# Altium footprint library ETech PCB Rev 1.0.PcbLib: 102 footprints (part 4 of 7)
Each footprint in its own frame and in the unit in brackets; x right, y up, seen from the top. Pads: shape width x height; smd on the part's side, far side on the other; paste and mask are expansions set on the pad; w line width, h text height; cw(c..) or ccw(c..) is an arc to the next point about the centre after c.
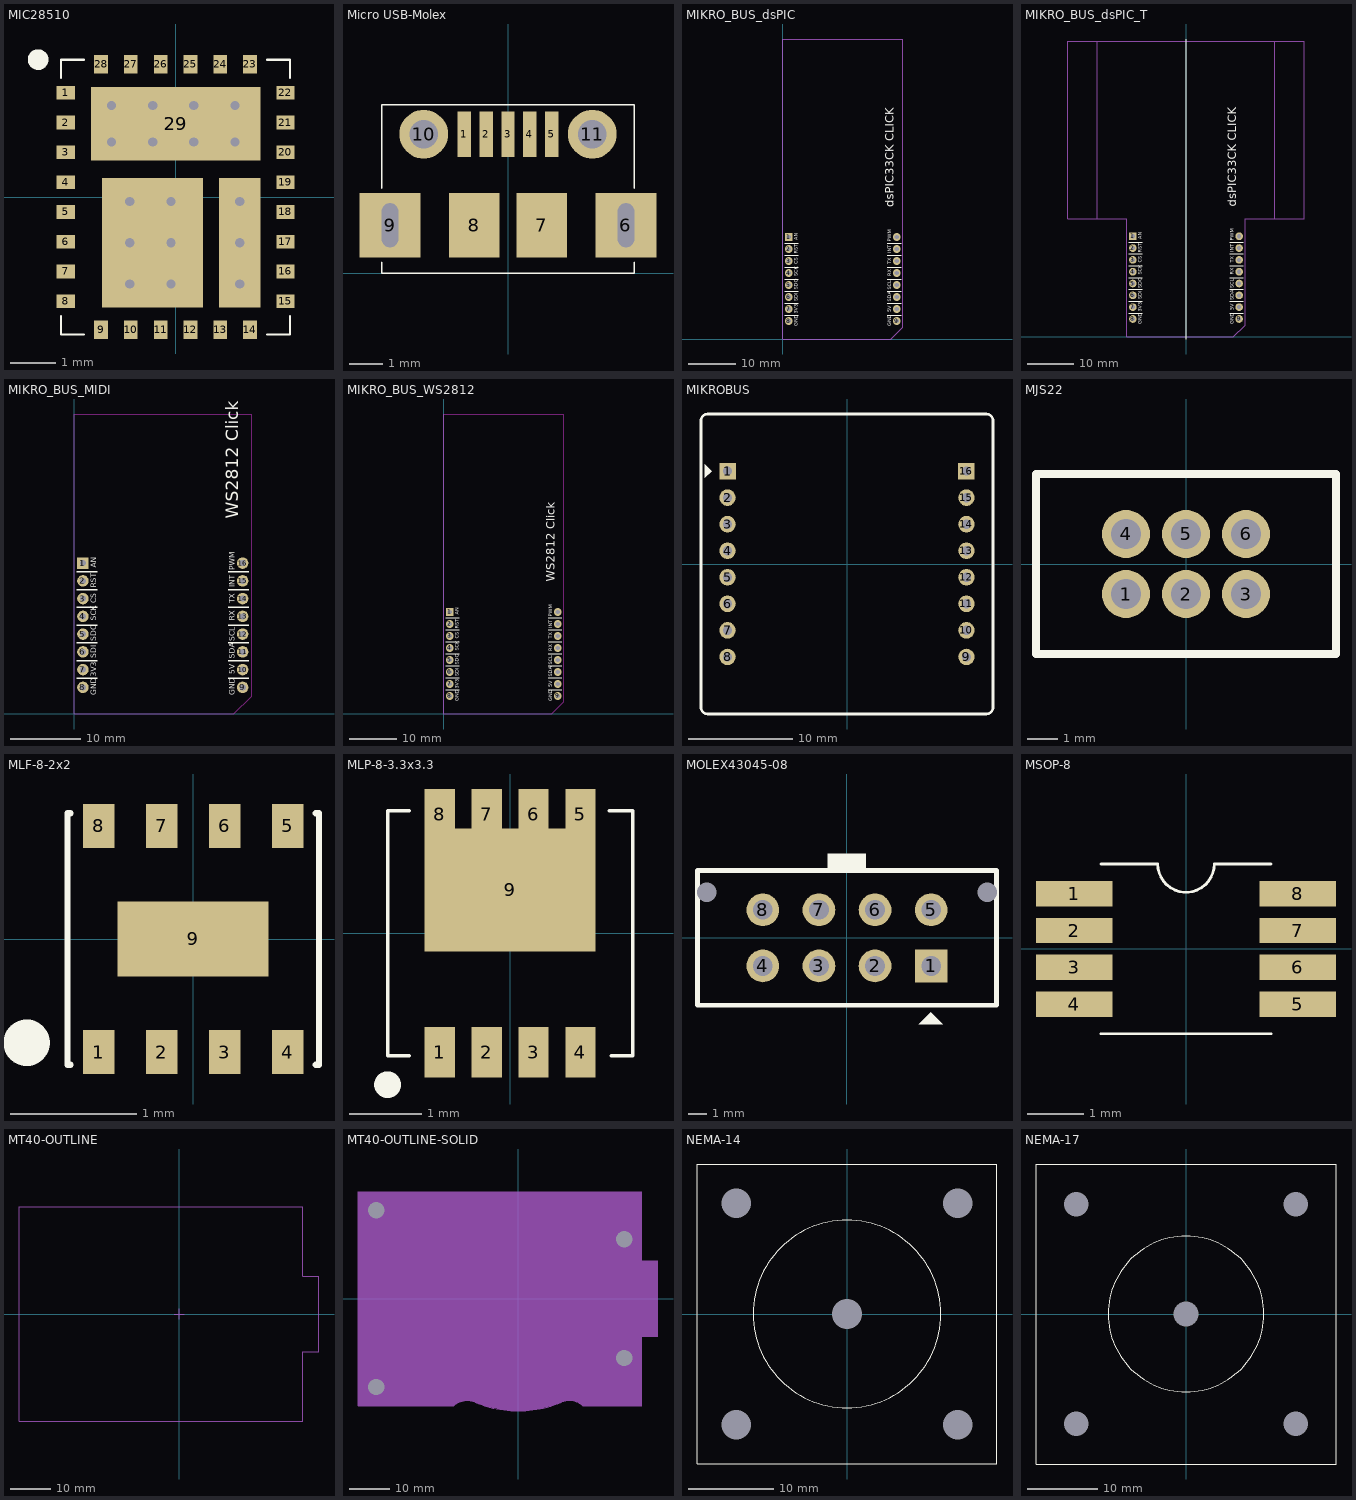
[diagram p3: the footprints below, top view; thin cyan lines are the x and y axes]

## MIC28510 [mm]
height 2.4
pads (31):
  rect 0.4x0.3 smd mask+0.08: 1(-2.4,2.275) 2(-2.4,1.625) 3(-2.4,0.975) 4(-2.4,0.325) 5(-2.4,-0.325) 6(-2.4,-0.975) 7(-2.4,-1.625) 8(-2.4,-2.275) 15(2.4,-2.275) 16(2.4,-1.625) 17(2.4,-0.975) 18(2.4,-0.325) 19(2.4,0.325) 20(2.4,0.975) 21(2.4,1.625) 22(2.4,2.275)
  rect 0.3x0.4 smd mask+0.08: 9(-1.625,-2.9) 10(-0.975,-2.9) 11(-0.325,-2.9) 12(0.325,-2.9) 13(0.975,-2.9) 14(1.625,-2.9) 23(1.625,2.9) 24(0.975,2.9) 25(0.325,2.9) 26(-0.325,2.9) 27(-0.975,2.9) 28(-1.625,2.9)
  rect 3.7x1.6 smd: 29(0,1.6)
  rect 2.2x2.83 smd: ""(-0.5,-1)
  rect 0.9x2.83 smd: ""(1.4,-1)
via -1.4,2 diameter 0.457 hole 0.203
via 0.4,2 diameter 0.457 hole 0.203
via 1.3,2 diameter 0.457 hole 0.203
via 1.4,-1.9 diameter 0.457 hole 0.203
via 1.4,-0.1 diameter 0.457 hole 0.203
via 1.4,-1 diameter 0.457 hole 0.203
via -1,-1.9 diameter 0.457 hole 0.203
via -1,-1 diameter 0.457 hole 0.203
via -1,-0.1 diameter 0.457 hole 0.203
via -0.1,-0.1 diameter 0.457 hole 0.203
via -0.1,-1 diameter 0.457 hole 0.203
via -0.1,-1.9 diameter 0.457 hole 0.203
via 1.3,1.2 diameter 0.457 hole 0.203
via -1.4,1.2 diameter 0.457 hole 0.203
via 0.4,1.2 diameter 0.457 hole 0.203
via -0.5,1.2 diameter 0.457 hole 0.203
via -0.5,2 diameter 0.457 hole 0.203
Top Overlay:
  circle w0.25: c-3,3 r0.1
  lines w0.05: -2.5,-2.6 -2.5,-3 -2,-3 ; -2.5,2.6 -2.5,3 -2,3 ; 2,-3 2.5,-3 2.5,-2.6 ; 2,3 2.5,3 2.5,2.6

## Micro USB-Molex [mm] "105017-0001"
height 6.7
pads (11):
  rect 0.4x1.35 smd: 1(-1.3,4.125) 2(-0.65,4.125) 3(0,4.125) 4(0.65,4.125) 5(1.3,4.125)
  rect 1.8x1.9 hole 0.5 slot 1.3 at 90 deg unplated: 6(3.5,1.425) 9(-3.5,1.425)
  rect 1.5x1.9 smd: 7(1,1.425) 8(-1,1.425)
  round 1.45 hole 0.85 unplated: 10(-2.5,4.125) 11(2.5,4.125)
Top Overlay:
  lines w0.05: -3.75,0.325 -3.75,0 3.75,0 3.75,0.325 ; -3.75,2.525 -3.75,5 3.75,5 3.75,2.525

## MIKRO_BUS_dsPIC [mil]
height 47.24
pads (16):
  rect 65x65 hole 35: 1(50,850)
  round 65 hole 35: 2(50,750) 3(50,650) 4(50,550) 5(50,450) 6(50,350) 7(50,250) 8(50,150) 9(950,150) 10(950,250) 11(950,350) 12(950,450) 13(950,550) 14(950,650) 15(950,750) 16(950,850)
Top Overlay:
  lines w8: 15,200 130,200 ; 15,300 130,300 ; 15,400 130,400 ; 15,500 130,500 ; 15,600 130,600 ; 15,700 130,700 ; 15,800 130,800 ; 870,200 985,200 ; 870,300 985,300 ; 870,400 985,400 ; 870,500 985,500 ; 870,600 985,600 ; 870,700 985,700 ; 870,800 985,800
  text "PWM" at 905,810 h30
  text "CS" at 125,625 h30
  text "TX" at 905,625 h30
  text "RX" at 905,525 h30
  text "SCL" at 905,410 h30
  text "SDA" at 905,310 h30
  text "GND" at 905,107 h30
  text "SDO" at 125,410 h30
  text "RST" at 125,710 h30
  text "INT" at 905,715 h30
  text "SCK" at 125,525 h30
  text "AN" at 125,825 h30
  text "SDI" at 125,315 h30
  text "5V" at 905,225 h30
  text "3V3" at 125,210 h30
  text "GND" at 125,107 h30
  text "dsPIC33CK CLICK" at 950,1100 h120
Bottom Overlay:
  lines w8: 3,100 100,100 100,900 3,900 ; 997,100 900,100 900,900 997,900
  text "SCK" at 230,530 h35
  text "AN" at 200,830 h35
  text "TX" at 860,630 h35
  text "RX" at 860,530 h35
  text "5V" at 860,230 h35
  text "GND" at 860,130 h35
  text "PWM" at 860,830 h35
  text "RST" at 230,730 h35
  text "SDA" at 860,330 h35
  text "SDO" at 230,430 h35
  text "3V3" at 230,230 h35
  text "GND" at 233,130 h35
  text "CS" at 195,630 h35
  text "SDI" at 220,330 h35
  text "INT" at 860,730 h35
  text "SCL" at 860,430 h35
Mechanical 15:
  lines w4: 0,0 0,2500 1000,2500 1000,98.43 901.57,0 897.64,0 0,0
3D body: height 81.88, standoff -398.04, extent 892.52,100 1007.48,400
3D body: height 81.88, standoff -398.04, extent -7.96,100 107,400
3D body: height 81.88, standoff -398.04, extent 892.52,400 1007.48,900
3D body: height 81.88, standoff -398.04, extent -7.96,400 107,900

## MIKRO_BUS_dsPIC_T [mil]
height 47.24
pads (16):
  rect 65x65 hole 35: 1(-450,850)
  round 65 hole 35: 2(-450,750) 3(-450,650) 4(-450,550) 5(-450,450) 6(-450,350) 7(-450,250) 8(-450,150) 9(450,150) 10(450,250) 11(450,350) 12(450,450) 13(450,550) 14(450,650) 15(450,750) 16(450,850)
Top Overlay:
  lines w4: 0,-19.68 0,2519.68
  lines w8: -485,200 -370,200 ; -485,300 -370,300 ; -485,400 -370,400 ; -485,500 -370,500 ; -485,600 -370,600 ; -485,700 -370,700 ; -485,800 -370,800 ; 370,200 485,200 ; 370,300 485,300 ; 370,400 485,400 ; 370,500 485,500 ; 370,600 485,600 ; 370,700 485,700 ; 370,800 485,800
  text "PWM" at 405,810 h30
  text "CS" at -375,625 h30
  text "TX" at 405,625 h30
  text "RX" at 405,525 h30
  text "SCL" at 405,410 h30
  text "SDA" at 405,310 h30
  text "GND" at 405,107 h30
  text "SDO" at -375,410 h30
  text "RST" at -375,710 h30
  text "INT" at 405,715 h30
  text "SCK" at -375,525 h30
  text "AN" at -375,825 h30
  text "SDI" at -375,315 h30
  text "5V" at 405,225 h30
  text "3V3" at -375,210 h30
  text "GND" at -375,107 h30
  text "dsPIC33CK CLICK" at 450,1100 h120
Bottom Overlay:
  lines w8: -497,100 -400,100 -400,900 -497,900 ; 497,100 400,100 400,900 497,900
  text "SCK" at -270,530 h35
  text "AN" at -300,830 h35
  text "TX" at 360,630 h35
  text "RX" at 360,530 h35
  text "5V" at 360,230 h35
  text "GND" at 360,130 h35
  text "PWM" at 360,830 h35
  text "RST" at -270,730 h35
  text "SDA" at 360,330 h35
  text "SDO" at -270,430 h35
  text "3V3" at -270,230 h35
  text "GND" at -267,130 h35
  text "CS" at -305,630 h35
  text "SDI" at -280,330 h35
  text "INT" at 360,730 h35
  text "SCL" at 360,430 h35
Mechanical 15:
  lines w4: -750,1000 -750,2500 ; -750,1000 -500,1000 -500,0 397.64,0 401.57,0 500,98.43 500,1000 750,1000 ; -750,1000 -1000,1000 -1000,2500 -750,2500 ; -750,2500 750,2500 ; 750,1000 750,2500 ; 750,1000 1000,1000 1000,2500 750,2500
3D body: height 81.88, standoff -398.04, extent 392.52,100 507.48,400
3D body: height 81.88, standoff -398.04, extent -507.96,100 -393,400
3D body: height 81.88, standoff -398.04, extent 392.52,400 507.48,900
3D body: height 81.88, standoff -398.04, extent -507.96,400 -393,900

## MIKRO_BUS_MIDI [mil]
height 47.24
pads (16):
  rect 65x65 hole 35: 1(50,850)
  round 65 hole 35: 2(50,750) 3(50,650) 4(50,550) 5(50,450) 6(50,350) 7(50,250) 8(50,150) 9(950,150) 10(950,250) 11(950,350) 12(950,450) 13(950,550) 14(950,650) 15(950,750) 16(950,850)
Top Overlay:
  lines w8: 15,200 130,200 ; 15,300 130,300 ; 15,400 130,400 ; 15,500 130,500 ; 15,600 130,600 ; 15,700 130,700 ; 15,800 130,800 ; 870,200 985,200 ; 870,300 985,300 ; 870,400 985,400 ; 870,500 985,500 ; 870,600 985,600 ; 870,700 985,700 ; 870,800 985,800
  text "WS2812 Click" at 950,1100 h120
  text "GND" at 125,107 h30
  text "3V3" at 125,210 h30
  text "5V" at 905,225 h30
  text "SDI" at 125,315 h30
  text "AN" at 125,825 h30
  text "SCK" at 125,525 h30
  text "INT" at 905,715 h30
  text "RST" at 125,710 h30
  text "SDO" at 125,410 h30
  text "GND" at 905,107 h30
  text "SDA" at 905,310 h30
  text "SCL" at 905,410 h30
  text "RX" at 905,525 h30
  text "TX" at 905,625 h30
  text "CS" at 125,625 h30
  text "PWM" at 905,810 h30
Bottom Overlay:
  lines w8: 3,100 100,100 100,900 3,900 ; 997,100 900,100 900,900 997,900
  text "SCL" at 860,430 h35
  text "INT" at 860,730 h35
  text "SDI" at 220,330 h35
  text "CS" at 195,630 h35
  text "GND" at 233,130 h35
  text "3V3" at 230,230 h35
  text "SDO" at 230,430 h35
  text "SDA" at 860,330 h35
  text "RST" at 230,730 h35
  text "PWM" at 860,830 h35
  text "GND" at 860,130 h35
  text "5V" at 860,230 h35
  text "RX" at 860,530 h35
  text "TX" at 860,630 h35
  text "AN" at 200,830 h35
  text "SCK" at 230,530 h35
Keep-Out Layer:
  lines w6: 0,0 0,1690 1000,1690 1000,100 900,0 0,0
3D body: height 81.88, standoff -398.04, extent -7.96,400 107,900
3D body: height 81.88, standoff -398.04, extent 892.52,400 1007.48,900
3D body: height 81.88, standoff -398.04, extent -7.96,100 107,400
3D body: height 81.88, standoff -398.04, extent 892.52,100 1007.48,400

## MIKRO_BUS_WS2812 [mil]
height 47.24
pads (16):
  rect 65x65 hole 35: 1(50,850)
  round 65 hole 35: 2(50,750) 3(50,650) 4(50,550) 5(50,450) 6(50,350) 7(50,250) 8(50,150) 9(950,150) 10(950,250) 11(950,350) 12(950,450) 13(950,550) 14(950,650) 15(950,750) 16(950,850)
Top Overlay:
  lines w8: 15,200 130,200 ; 15,300 130,300 ; 15,400 130,400 ; 15,500 130,500 ; 15,600 130,600 ; 15,700 130,700 ; 15,800 130,800 ; 870,200 985,200 ; 870,300 985,300 ; 870,400 985,400 ; 870,500 985,500 ; 870,600 985,600 ; 870,700 985,700 ; 870,800 985,800
  text "WS2812 Click" at 950,1100 h120
  text "GND" at 125,107 h30
  text "3V3" at 125,210 h30
  text "5V" at 905,225 h30
  text "SDI" at 125,315 h30
  text "AN" at 125,825 h30
  text "SCK" at 125,525 h30
  text "INT" at 905,715 h30
  text "RST" at 125,710 h30
  text "SDO" at 125,410 h30
  text "GND" at 905,107 h30
  text "SDA" at 905,310 h30
  text "SCL" at 905,410 h30
  text "RX" at 905,525 h30
  text "TX" at 905,625 h30
  text "CS" at 125,625 h30
  text "PWM" at 905,810 h30
Bottom Overlay:
  lines w8: 3,100 100,100 100,900 3,900 ; 997,100 900,100 900,900 997,900
  text "SCL" at 860,430 h35
  text "INT" at 860,730 h35
  text "SDI" at 220,330 h35
  text "CS" at 195,630 h35
  text "GND" at 233,130 h35
  text "3V3" at 230,230 h35
  text "SDO" at 230,430 h35
  text "SDA" at 860,330 h35
  text "RST" at 230,730 h35
  text "PWM" at 860,830 h35
  text "GND" at 860,130 h35
  text "5V" at 860,230 h35
  text "RX" at 860,530 h35
  text "TX" at 860,630 h35
  text "AN" at 200,830 h35
  text "SCK" at 230,530 h35
Keep-Out Layer:
  lines w6: 0,0 0,2500 1000,2500 1000,100 900,0 0,0
3D body: height 81.88, standoff -398.04, extent -7.96,400 107,900
3D body: height 81.88, standoff -398.04, extent 892.52,400 1007.48,900
3D body: height 81.88, standoff -398.04, extent -7.96,100 107,400
3D body: height 81.88, standoff -398.04, extent 892.52,100 1007.48,400

## MIKROBUS [mil]
height 751.97
pads (16):
  rect 62x62 hole 35: 1(-450,350) 16(450,350)
  round 62 hole 35: 2(-450,250) 3(-450,150) 4(-450,50) 5(-450,-50) 6(-450,-150) 7(-450,-250) 8(-450,-350) 9(450,-350) 10(450,-250) 11(450,-150) 12(450,-50) 13(450,50) 14(450,150) 15(450,250)
Top Overlay:
  region: -510,350 -535,375 -535,325
  lines w10: -550,-540 ccw(c-525,-540) -525,-565 525,-565 ccw(c525,-540) 550,-540 550,540 ccw(c525,540) 525,565 -525,565 ccw(c-525,540) -550,540 -550,-540

## MJS22 [mm]
height 19.1
pads (6):
  round 1.6 hole 1: 1(-2,-1) 2(0,-1) 3(2,-1) 4(-2,1) 5(0,1) 6(2,1)
Top Overlay:
  lines w0.254: -5,-3 5,-3 5,3 -5,3 -5,-3

## MLF-8-2x2 [mm]
height 2.4
pads (9):
  rect 0.25x0.35 smd mask+0.08: 1(-0.75,-0.9) 2(-0.25,-0.9) 3(0.25,-0.9) 4(0.75,-0.9) 5(0.75,0.9) 6(0.25,0.9) 7(-0.25,0.9) 8(-0.75,0.9)
  rect 1.2x0.6 smd: 9(0,0)
Top Overlay:
  circle w0.25: c-1.325,-0.825 r0.06
  lines w0.05: -0.975,-1 -1,-1 -1,1 -0.975,1 ; 0.975,-1 1,-1 1,1 0.975,1

## MLP-8-3.3x3.3 [mm]
height 2.4
pads (9):
  rect 0.42x0.7 smd mask+0.08: 1(-0.975,-1.65) 2(-0.325,-1.65) 3(0.325,-1.65) 4(0.975,-1.65) 5(0.975,1.65) 6(0.325,1.65) 7(-0.325,1.65) 8(-0.975,1.65)
  rect 2.37x1.7 smd: 9(0,0.6)
Top Overlay:
  circle w0.25: c-1.7,-2.1 r0.06
  lines w0.05: -1.4,-1.7 -1.7,-1.7 -1.7,1.7 -1.4,1.7 ; 1.375,1.7 1.7,1.7 1.7,-1.7 1.4,-1.7

## MOLEX43045-08 [mm]
height 19.1
pads (10):
  rect 1.75x1.75 hole 1.05: 1(4.5,-1.5)
  round 1.75 hole 1.05: 2(1.5,-1.5) 3(-1.5,-1.5) 4(-4.5,-1.5) 5(4.5,1.5) 6(1.5,1.5) 7(-1.5,1.5) 8(-4.5,1.5)
  round 1 hole 1.05 unplated: ""(-7.5,2.44) ""(7.5,2.44)
Top Overlay:
  rectangle: -1,3.6 1,4.5
  region: 4.483,-3.982 5.118,-4.617 3.848,-4.617
  lines w0.045: -1,3.7 -1,4.5 1,4.5 1,3.6
  lines w0.254: -8,-3.6 -8,3.6 8,3.6 8,-3.6 -8,-3.6

## MSOP-8 [mm]
height 1.1
pads (8):
  rect 1.35x0.45 smd mask+0.05: 1(-1.975,0.975) 2(-1.975,0.325) 3(-1.975,-0.325) 4(-1.975,-0.975) 5(1.975,-0.975) 6(1.975,-0.325) 7(1.975,0.325) 8(1.975,0.975)
Top Overlay:
  lines w0.05: -1.5,-1.5 1.5,-1.5 ; -1.5,1.5 -0.5,1.5 ccw(c0,1.5) 0.5,1.5 1.5,1.5

## MT40-OUTLINE [mm]
height 19.1
Mechanical 15:
  lines w0.152: -1.27,0 1.27,0 ; 0,-1.27 0,1.27 ; 16.002,-26.67 -39.878,-26.67 -39.878,26.67 30.734,26.67 30.734,9.398 34.798,9.398 34.798,-9.398 30.734,-9.398 30.734,-10.922 30.734,-26.67 16.033,-26.67

## MT40-OUTLINE-SOLID [mil]
height 751.97
pads (4):
  round 150 hole 160 unplated: ""(-1391,-866) ""(-1391,866) ""(1038,-581) ""(1038,581)
Mechanical 15:
  region: -1570,1050 1210,1050 1210,370 1370,370 1370,-370 1210,-370 1210,-1050 629.72,-1050 607.28,-1027.56 599.41,-1027.56 599.41,-1025.59 584.65,-1010.83 581.69,-1013.78 569.88,-1013.78 561.02,-1004.92 543.31,-1004.92 538.39,-1000 500,-1000 498.03,-998.03 466.54,-998.03 457.68,-1006.89 448.82,-1006.89 447.83,-1007.87 437.01,-1007.87 428.71,-1016.17 413.95,-1016.17 406.5,-1023.62 394.69,-1023.62 387.8,-1030.51 375.98,-1030.51 369.09,-1037.4 356.3,-1037.4 349.41,-1044.29 337.6,-1044.29 331.69,-1050.2 330.71,-1049.21 322.83,-1049.21 315.94,-1056.1 297.24,-1056.1 291.34,-1062.01 265.75,-1062.01 256.89,-1070.87 242.13,-1070.87 238.19,-1074.8 222.44,-1074.8 215.55,-1081.69 187.01,-1081.69 181.1,-1087.6 138.78,-1087.6 131.89,-1094.49 54.13,-1094.49 51.18,-1097.44 -96.46,-1097.44 -100.39,-1093.5 -132.87,-1093.5 -137.8,-1088.58 -171.26,-1088.58 -176.18,-1083.66 -201.77,-1083.66 -209.65,-1075.79 -236.22,-1075.79 -239.17,-1072.83 -241.14,-1074.8 -253.94,-1074.8 -264.76,-1063.98 -284.45,-1063.98 -290.35,-1058.07 -312.99,-1058.07 -318.9,-1052.17 -332.68,-1052.17 -339.57,-1045.28 -350.39,-1045.28 -350.39,-1044.29 -362.2,-1032.48 -385.83,-1032.48 -395.67,-1022.64 -408.46,-1022.64 -414.93,-1016.17 -424.77,-1016.17 -432.09,-1008.86 -446.85,-1008.86 -451.77,-1003.94 -471.46,-1003.94 -474.41,-1000.98 -498.03,-1000.98 -499.02,-1000 -500,-1000.98 -526.57,-1000.98 -528.54,-1002.95 -545.28,-1002.95 -550.2,-1007.87 -562.01,-1007.87 -566.93,-1012.8 -576.77,-1012.8 -584.65,-1020.67 -590.55,-1020.67 -597.44,-1027.56 -607.28,-1027.56 -617.13,-1037.4 -618.63,-1037.4 -631.23,-1050 -1570,-1050
  lines w6: -50,0 50,0 ; 0,-50 0,50 ; -1570,-1050 -631.23,-1050 -625.55,-1044.32 cw(c-500,-1200) -421.21,-1016.17 ccw(c0,0) 421.22,-1016.16 cw(c500,-1200) 625.55,-1044.32 631.23,-1050 1210,-1050 1210,-430 1210,-370 1370,-370 1370,370 1210,370 1210,1050 -1570,1050 -1570,-1050

## NEMA-14 [mm]
height 19.1
pads (5):
  round 3 hole 3.5 unplated: ""(-13,-13) ""(-13,13) ""(0,0) ""(13,-13) ""(13,13)
Top Overlay:
  circle w0.05: c0,0 r11
  lines w0.045: -17.6,-17.6 17.6,-17.6 17.6,17.6 -17.6,17.6 -17.6,3.8 -17.6,-17.6

## NEMA-17 [mm]
height 19.1
pads (5):
  round 3 hole 3.5 unplated: ""(-15.5,-15.5) ""(-15.5,15.5) ""(0,0) ""(15.5,-15.5) ""(15.5,15.5)
Top Overlay:
  circle w0.05: c0,0 r11
  lines w0.045: -21.2,-21.2 -21.2,7.4 -21.2,21.2 21.2,21.2 21.2,-21.2 -21.2,-21.2